# Altium schematic symbol library MySch.SchLib: 164 symbols (part 2 of 3)
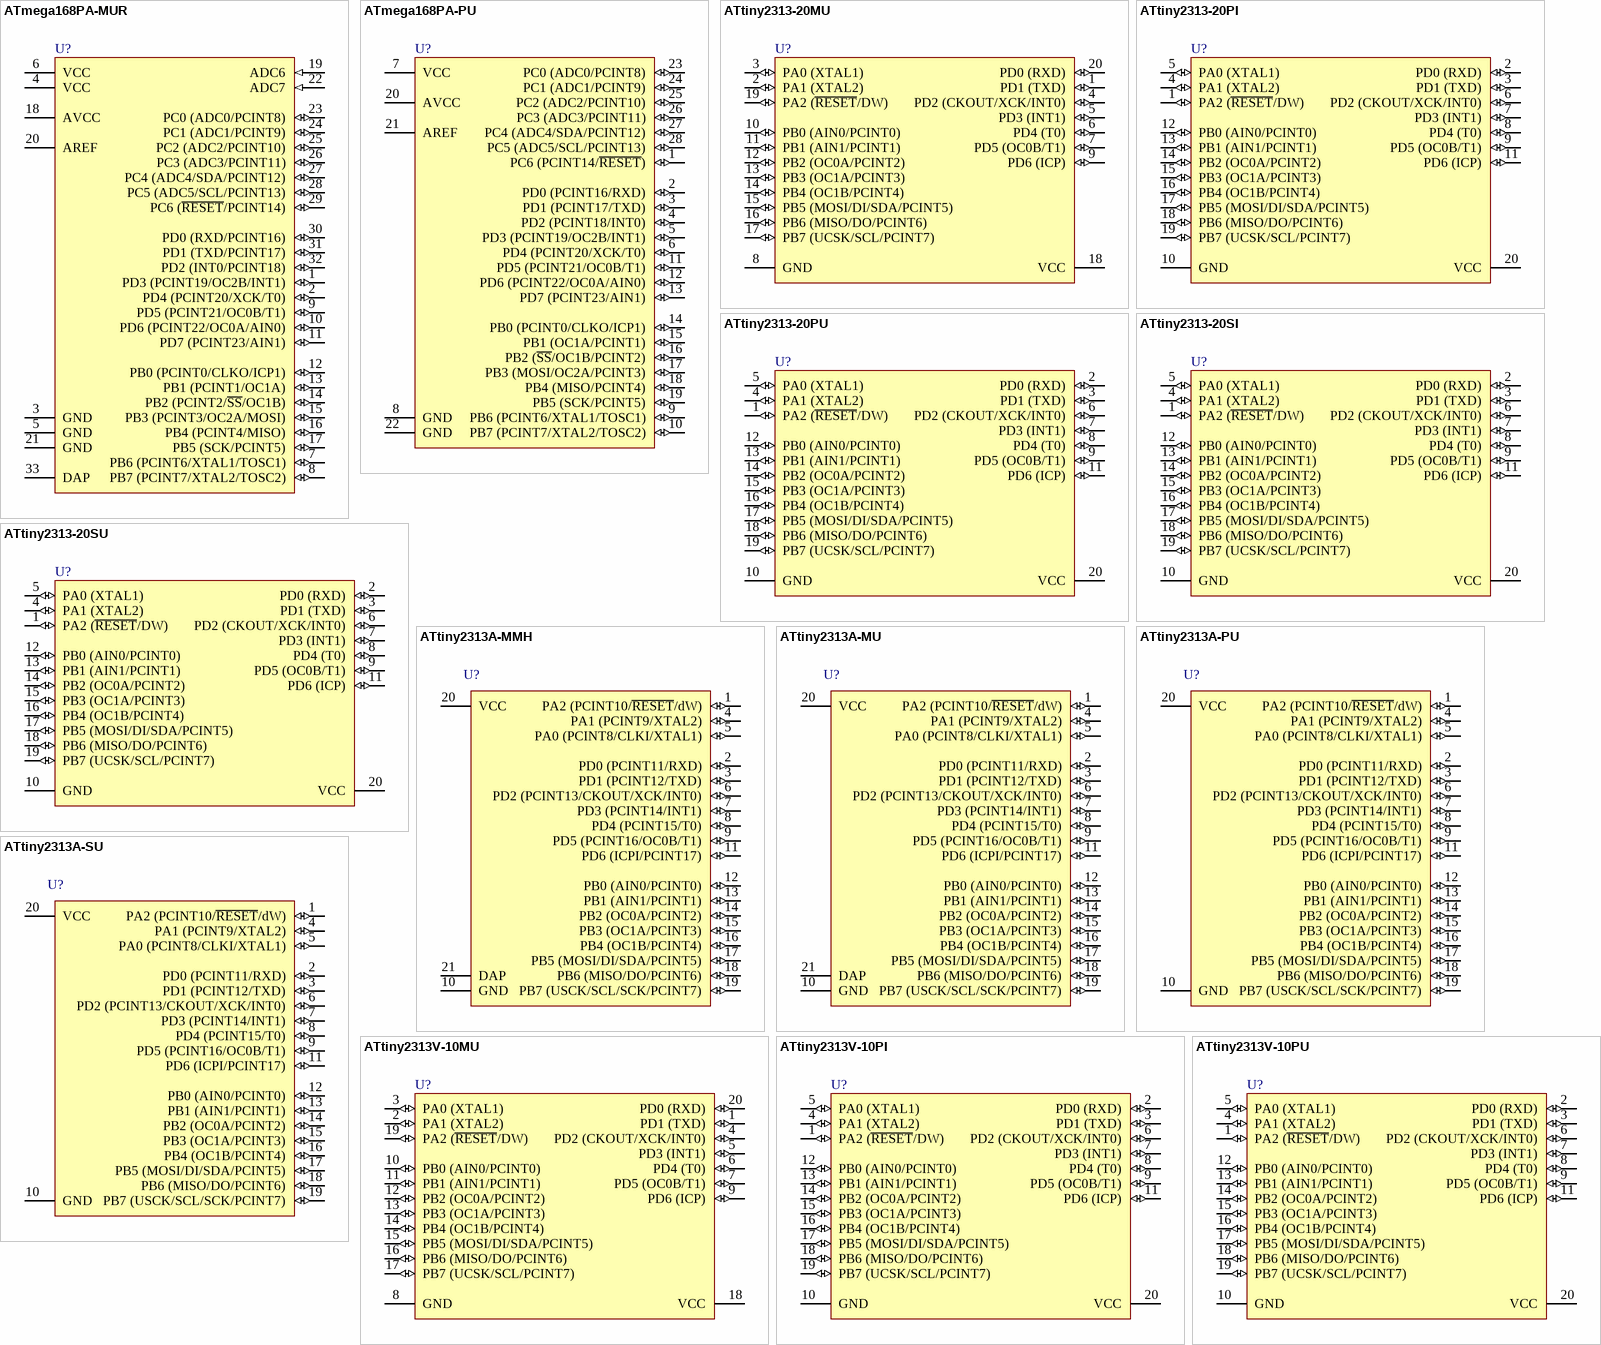
[diagram p7: symbols ATmega168PA-MUR to ATtiny2313V-10PU]

## ATtiny2313-20MU
designator U?
Low Power tinyAVR® 8-Bit Microcontroller, 2K Flash Memory, 20MHz, Industrial Temperature, 20-Lead MLF, Pb-Free; Published: 20-Nov-2009; DatasheetVersion: DOC2543B, Mar-2009; PackageVersion: revA, Oct-2004; PackageReference: 20M1; Publisher: Altium Limited; PackageDescription: 20-pad, 4 x 4 x 0.8 mm Body, Lead Pitch 0.50 mm, 2.6 mm Exposed Pad, Micro Lead Frame Package (MLF); Supplier 1: Digi-Key; Supplier Part Number 1: ATTINY2313-20MU-ND; Supplier 2: Farnell; Supplier Part Number 2: 1748539; Supplier 3: Mouser; Supplier Part Number 3: 556-ATTINY2313-20MU; Code_JEDEC: MO-220WGGD-5; ComponentLink1Description: Manufacturer Link; ComponentLink1URL: http://www.atmel.com/products/AVR/tinyavr.asp?; ComponentLink2Description: Datasheet; ComponentLink2URL: http://www.atmel.com/dyn/resources/prod_documents/doc2543.pdf; ComponentLink3Description: Atmel.com Home; ComponentLink3URL: http://www.atmel.com
footprint 20M1_N (QFN, 20-Leads, Body 4x4mm, Pitch 0.5mm, IPC Medium Density)
footprint 20M1_L (QFN, 20-Leads, Body 4x4mm, Pitch 0.5mm, IPC High Density)
footprint 20M1_M (QFN, 20-Leads, Body 4x4mm, Pitch 0.5mm, IPC Low Density)
pins: 1 PD1 (TXD) (io), 2 PA1 (XTAL2) (io), 3 PA0 (XTAL1) (io), 4 PD2 (CKOUT/XCK/INT0) (io), 5 PD3 (INT1) (io), 6 PD4 (T0) (io), 7 PD5 (OC0B/T1) (io), 8 GND (power), 9 PD6 (ICP) (io), 10 PB0 (AIN0/PCINT0) (io), 11 PB1 (AIN1/PCINT1) (io), 12 PB2 (OC0A/PCINT2) (io), 13 PB3 (OC1A/PCINT3) (io), 14 PB4 (OC1B/PCINT4) (io), 15 PB5 (MOSI/DI/SDA/PCINT5) (io), 16 PB6 (MISO/DO/PCINT6) (io), 17 PB7 (UCSK/SCL/PCINT7) (io), 18 VCC (power), 19 PA2 (~{RESET}/DW) (io), 20 PD0 (RXD) (io)

## ATtiny2313-20PI
designator U?
Low Power tinyAVR® 8-Bit Microcontroller, 2K Flash Memory, 20MHz, Industrial Temperature, 20-Lead PDIP; Published: 20-Nov-2009; DatasheetVersion: DOC2543B, Mar-2009; PackageVersion: revC, Jan-2004; PackageReference: 20P3; Publisher: Altium Limited; PackageDescription: 20-lead (0.300"/7.62mm Wide) Plastic Dual Inline Package (PDIP); Supplier 1: Digi-Key; Supplier Part Number 1: ATTINY2313-20PI-ND; Supplier 2: Mouser; Supplier Part Number 2: 556-ATTINY2313-20PI; Code_JEDEC: MS-001-AD; ComponentLink1Description: Manufacturer Link; ComponentLink1URL: http://www.atmel.com/products/AVR/tinyavr.asp?; ComponentLink2Description: Datasheet; ComponentLink2URL: http://www.atmel.com/dyn/resources/prod_documents/doc2543.pdf; ComponentLink3Description: Atmel.com Home; ComponentLink3URL: http://www.atmel.com
footprint 20P3 (DIP, 20-Leads, Row Spacing 7.62mm, Pitch 2.54mm, Body 25.9x6.61mm)
pins: 1 PA2 (~{RESET}/DW) (io), 2 PD0 (RXD) (io), 3 PD1 (TXD) (io), 4 PA1 (XTAL2) (io), 5 PA0 (XTAL1) (io), 6 PD2 (CKOUT/XCK/INT0) (io), 7 PD3 (INT1) (io), 8 PD4 (T0) (io), 9 PD5 (OC0B/T1) (io), 10 GND (power), 11 PD6 (ICP) (io), 12 PB0 (AIN0/PCINT0) (io), 13 PB1 (AIN1/PCINT1) (io), 14 PB2 (OC0A/PCINT2) (io), 15 PB3 (OC1A/PCINT3) (io), 16 PB4 (OC1B/PCINT4) (io), 17 PB5 (MOSI/DI/SDA/PCINT5) (io), 18 PB6 (MISO/DO/PCINT6) (io), 19 PB7 (UCSK/SCL/PCINT7) (io), 20 VCC (power)

## ATtiny2313-20PU
designator U?
Low Power tinyAVR® 8-Bit Microcontroller, 2K Flash Memory, 20MHz, Industrial Temperature, 20-Lead PDIP, Pb-Free; Published: 20-Nov-2009; DatasheetVersion: DOC2543B, Mar-2009; PackageVersion: revC, Jan-2004; PackageReference: 20P3; Publisher: Altium Limited; PackageDescription: 20-lead (0.300"/7.62mm Wide) Plastic Dual Inline Package (PDIP); Supplier 1: Digi-Key; Supplier Part Number 1: ATTINY2313-20PU-ND; Supplier 2: Farnell; Supplier Part Number 2: 9171592; Supplier 3: Mouser; Supplier Part Number 3: 556-ATTINY2313-20PU; Code_JEDEC: MS-001-AD; ComponentLink1Description: Manufacturer Link; ComponentLink1URL: http://www.atmel.com/products/AVR/tinyavr.asp?; ComponentLink2Description: Datasheet; ComponentLink2URL: http://www.atmel.com/dyn/resources/prod_documents/doc2543.pdf; ComponentLink3Description: Atmel.com Home; ComponentLink3URL: http://www.atmel.com
footprint 20P3 (DIP, 20-Leads, Row Spacing 7.62mm, Pitch 2.54mm, Body 25.9x6.61mm)
pins: 1 PA2 (~{RESET}/DW) (io), 2 PD0 (RXD) (io), 3 PD1 (TXD) (io), 4 PA1 (XTAL2) (io), 5 PA0 (XTAL1) (io), 6 PD2 (CKOUT/XCK/INT0) (io), 7 PD3 (INT1) (io), 8 PD4 (T0) (io), 9 PD5 (OC0B/T1) (io), 10 GND (power), 11 PD6 (ICP) (io), 12 PB0 (AIN0/PCINT0) (io), 13 PB1 (AIN1/PCINT1) (io), 14 PB2 (OC0A/PCINT2) (io), 15 PB3 (OC1A/PCINT3) (io), 16 PB4 (OC1B/PCINT4) (io), 17 PB5 (MOSI/DI/SDA/PCINT5) (io), 18 PB6 (MISO/DO/PCINT6) (io), 19 PB7 (UCSK/SCL/PCINT7) (io), 20 VCC (power)

## ATtiny2313-20SI
designator U?
Low Power tinyAVR® 8-Bit Microcontroller, 2K Flash Memory, 20MHz, Industrial Temperature, 20-Lead SOIC; Published: 20-Nov-2009; DatasheetVersion: DOC2543B, Mar-2009; PackageVersion: revA, Jan-2002; PackageReference: 20S; Publisher: Altium Limited; PackageDescription: 20-lead, 0.300" Wide Body, Plastic Gull Wing Small Outline Package (SOIC); Supplier 1: Digi-Key; Supplier Part Number 1: ATTINY2313-20SI-ND; Supplier 2: Mouser; Supplier Part Number 2: 556-ATTINY2313-20SI; Code_JEDEC: MS-013-AC; Code_IPC: SOIC127P1030-20; ComponentLink1Description: Manufacturer Link; ComponentLink1URL: http://www.atmel.com/products/AVR/tinyavr.asp?; ComponentLink2Description: Datasheet; ComponentLink2URL: http://www.atmel.com/dyn/resources/prod_documents/doc2543.pdf; ComponentLink3Description: Atmel.com Home; ComponentLink3URL: http://www.atmel.com
footprint 20S_N (SOIC, 20-Leads, Body 12.8x7.5mm, Pitch 1.27mm, IPC Medium Density)
footprint 20S_L (SOIC, 20-Leads, Body 12.8x7.5mm, Pitch 1.27mm, IPC High Density)
footprint 20S_M (SOIC, 20-Leads, Body 12.8x7.5mm, Pitch 1.27mm, IPC Low Density)
pins: 1 PA2 (~{RESET}/DW) (io), 2 PD0 (RXD) (io), 3 PD1 (TXD) (io), 4 PA1 (XTAL2) (io), 5 PA0 (XTAL1) (io), 6 PD2 (CKOUT/XCK/INT0) (io), 7 PD3 (INT1) (io), 8 PD4 (T0) (io), 9 PD5 (OC0B/T1) (io), 10 GND (power), 11 PD6 (ICP) (io), 12 PB0 (AIN0/PCINT0) (io), 13 PB1 (AIN1/PCINT1) (io), 14 PB2 (OC0A/PCINT2) (io), 15 PB3 (OC1A/PCINT3) (io), 16 PB4 (OC1B/PCINT4) (io), 17 PB5 (MOSI/DI/SDA/PCINT5) (io), 18 PB6 (MISO/DO/PCINT6) (io), 19 PB7 (UCSK/SCL/PCINT7) (io), 20 VCC (power)

## ATtiny2313-20SU
designator U?
Low Power tinyAVR® 8-Bit Microcontroller, 2K Flash Memory, 20MHz, Industrial Temperature, 20-Lead SOIC, Pb-Free; Published: 20-Nov-2009; DatasheetVersion: DOC2543B, Mar-2009; PackageVersion: revA, Jan-2002; PackageReference: 20S; Publisher: Altium Limited; PackageDescription: 20-lead, 0.300" Wide Body, Plastic Gull Wing Small Outline Package (SOIC); Supplier 1: Digi-Key; Supplier Part Number 1: ATTINY2313-20SU-ND; Supplier 2: Farnell; Supplier Part Number 2: 1661731; Supplier 3: Farnell; Supplier Part Number 3: 9171606; Supplier 4: Mouser; Supplier Part Number 4: 556-ATTINY2313-20SU; Code_JEDEC: MS-013-AC; Code_IPC: SOIC127P1030-20; ComponentLink1Description: Manufacturer Link; ComponentLink1URL: http://www.atmel.com/products/AVR/tinyavr.asp?; ComponentLink2Description: Datasheet; ComponentLink2URL: http://www.atmel.com/dyn/resources/prod_documents/doc2543.pdf; ComponentLink3Description: Atmel.com Home; ComponentLink3URL: http://www.atmel.com
footprint 20S_N (SOIC, 20-Leads, Body 12.8x7.5mm, Pitch 1.27mm, IPC Medium Density)
footprint 20S_L (SOIC, 20-Leads, Body 12.8x7.5mm, Pitch 1.27mm, IPC High Density)
footprint 20S_M (SOIC, 20-Leads, Body 12.8x7.5mm, Pitch 1.27mm, IPC Low Density)
pins: 1 PA2 (~{RESET}/DW) (io), 2 PD0 (RXD) (io), 3 PD1 (TXD) (io), 4 PA1 (XTAL2) (io), 5 PA0 (XTAL1) (io), 6 PD2 (CKOUT/XCK/INT0) (io), 7 PD3 (INT1) (io), 8 PD4 (T0) (io), 9 PD5 (OC0B/T1) (io), 10 GND (power), 11 PD6 (ICP) (io), 12 PB0 (AIN0/PCINT0) (io), 13 PB1 (AIN1/PCINT1) (io), 14 PB2 (OC0A/PCINT2) (io), 15 PB3 (OC1A/PCINT3) (io), 16 PB4 (OC1B/PCINT4) (io), 17 PB5 (MOSI/DI/SDA/PCINT5) (io), 18 PB6 (MISO/DO/PCINT6) (io), 19 PB7 (UCSK/SCL/PCINT7) (io), 20 VCC (power)

## ATtiny2313A-MMH
designator U?
8-bit AVR Microcontroller, 1.8-5.5V, 2KB Flash, 128 Bytes EEPROM, 128 Bytes SRAM, 20-pin VQFN, Industrial Grade (-40°C to 85°C), Pb-Free; Published: 1-Apr-2010; DatasheetVersion: revA, Dec-2009; PackageVersion: revB, Oct-2008; PackageReference: 20M2; Publisher: Altium Limited; PackageDescription: 20-pad, 3x3x0.85mm Body, Pitch 0.45mm, 1.55x1.55mm Exposed Pad, Plastic Very Thin QFN Package (VQFN); Supplier 1: Digi-Key; Supplier Part Number 1: ATTINY2313A-MMH-ND; Supplier 2: Mouser; Supplier Part Number 2: 556-ATTINY2313A-MMH; ComponentLink1Description: Manufacturer Link; ComponentLink1URL: http://www.atmel.com/products/avr/default.asp?; ComponentLink2Description: ATtiny2313A/4313 Datasheet; ComponentLink2URL: http://www.atmel.com/dyn/resources/prod_documents/doc8246.pdf; ComponentLink3Description: ATtiny2313A/4313 Summary; ComponentLink3URL: http://www.atmel.com/dyn/resources/prod_documents/8246S.pdf; ComponentLink4Description: Atmel.com Home; ComponentLink4URL: http://www.atmel.com
footprint 20M2_N (QFN, 20-Leads, Body 3x3mm, Pitch 0.45mm, IPC Medium Density)
footprint 20M2_L (QFN, 20-Leads, Body 3x3mm, Pitch 0.45mm, IPC High Density)
footprint 20M2_M (QFN, 20-Leads, Body 3x3mm, Pitch 0.45mm, IPC Low Density)
pins: 1 PA2 (PCINT10/~{RESET}/dW) (io), 2 PD0 (PCINT11/RXD) (io), 3 PD1 (PCINT12/TXD) (io), 4 PA1 (PCINT9/XTAL2) (io), 5 PA0 (PCINT8/CLKI/XTAL1) (io), 6 PD2 (PCINT13/CKOUT/XCK/INT0) (io), 7 PD3 (PCINT14/INT1) (io), 8 PD4 (PCINT15/T0) (io), 9 PD5 (PCINT16/OC0B/T1) (io), 10 GND (power), 11 PD6 (ICPI/PCINT17) (io), 12 PB0 (AIN0/PCINT0) (io), 13 PB1 (AIN1/PCINT1) (io), 14 PB2 (OC0A/PCINT2) (io), 15 PB3 (OC1A/PCINT3) (io), 16 PB4 (OC1B/PCINT4) (io), 17 PB5 (MOSI/DI/SDA/PCINT5) (io), 18 PB6 (MISO/DO/PCINT6) (io), 19 PB7 (USCK/SCL/SCK/PCINT7) (io), 20 VCC (power), 21 DAP

## ATtiny2313A-MU
designator U?
8-bit AVR Microcontroller, 1.8-5.5V, 2KB Flash, 128 Bytes EEPROM, 128 Bytes SRAM, 20-pin MLF, Industrial Grade (-40°C to 85°C), Pb-Free; Published: 1-Apr-2010; DatasheetVersion: revA, Dec-2009; PackageVersion: revA, Oct-2004; PackageReference: 20M1; Publisher: Altium Limited; PackageDescription: 20-pad, 4 x 4 x 0.8 mm Body, Lead Pitch 0.50 mm, 2.6 mm Exposed Pad, Micro Lead Frame Package (MLF); Supplier 1: Digi-Key; Supplier Part Number 1: ATTINY2313A-MU-ND; Supplier 2: Mouser; Supplier Part Number 2: 556-ATTINY2313A-MU; Code_JEDEC: MO-220WGGD-5; ComponentLink1Description: Manufacturer Link; ComponentLink1URL: http://www.atmel.com/products/avr/default.asp?; ComponentLink2Description: ATtiny2313A/4313 Datasheet; ComponentLink2URL: http://www.atmel.com/dyn/resources/prod_documents/doc8246.pdf; ComponentLink3Description: ATtiny2313A/4313 Summary; ComponentLink3URL: http://www.atmel.com/dyn/resources/prod_documents/8246S.pdf; ComponentLink4Description: Atmel.com Home; ComponentLink4URL: http://www.atmel.com
footprint 20M1_N (QFN, 20-Leads, Body 4x4mm, Pitch 0.5mm, IPC Medium Density)
footprint 20M1_L (QFN, 20-Leads, Body 4x4mm, Pitch 0.5mm, IPC High Density)
footprint 20M1_M (QFN, 20-Leads, Body 4x4mm, Pitch 0.5mm, IPC Low Density)
pins: 1 PA2 (PCINT10/~{RESET}/dW) (io), 2 PD0 (PCINT11/RXD) (io), 3 PD1 (PCINT12/TXD) (io), 4 PA1 (PCINT9/XTAL2) (io), 5 PA0 (PCINT8/CLKI/XTAL1) (io), 6 PD2 (PCINT13/CKOUT/XCK/INT0) (io), 7 PD3 (PCINT14/INT1) (io), 8 PD4 (PCINT15/T0) (io), 9 PD5 (PCINT16/OC0B/T1) (io), 10 GND (power), 11 PD6 (ICPI/PCINT17) (io), 12 PB0 (AIN0/PCINT0) (io), 13 PB1 (AIN1/PCINT1) (io), 14 PB2 (OC0A/PCINT2) (io), 15 PB3 (OC1A/PCINT3) (io), 16 PB4 (OC1B/PCINT4) (io), 17 PB5 (MOSI/DI/SDA/PCINT5) (io), 18 PB6 (MISO/DO/PCINT6) (io), 19 PB7 (USCK/SCL/SCK/PCINT7) (io), 20 VCC (power), 21 DAP

## ATtiny2313A-PU
designator U?
8-bit AVR Microcontroller, 1.8-5.5V, 2KB Flash, 128 Bytes EEPROM, 128 Bytes SRAM, 20-pin PDIP, Industrial Grade (-40°C to 85°C), Pb-Free; Published: 1-Apr-2010; DatasheetVersion: revA, Dec-2009; PackageVersion: revC, Jan-2004; PackageReference: 20P3; Publisher: Altium Limited; PackageDescription: 20-lead (0.300"/7.62mm Wide) Plastic Dual Inline Package (PDIP); Supplier 1: Digi-Key; Supplier Part Number 1: ATTINY2313A-PU-ND; Supplier 2: Mouser; Supplier Part Number 2: 556-ATTINY2313A-PU; Code_JEDEC: MS-001-AD; ComponentLink1Description: Manufacturer Link; ComponentLink1URL: http://www.atmel.com/products/avr/default.asp?; ComponentLink2Description: ATtiny2313A/4313 Datasheet; ComponentLink2URL: http://www.atmel.com/dyn/resources/prod_documents/doc8246.pdf; ComponentLink3Description: ATtiny2313A/4313 Summary; ComponentLink3URL: http://www.atmel.com/dyn/resources/prod_documents/8246S.pdf; ComponentLink4Description: Atmel.com Home; ComponentLink4URL: http://www.atmel.com
footprint 20P3 (DIP, 20-Leads, Row Spacing 7.62mm, Pitch 2.54mm, Body 25.9x6.61mm)
pins: 1 PA2 (PCINT10/~{RESET}/dW) (io), 2 PD0 (PCINT11/RXD) (io), 3 PD1 (PCINT12/TXD) (io), 4 PA1 (PCINT9/XTAL2) (io), 5 PA0 (PCINT8/CLKI/XTAL1) (io), 6 PD2 (PCINT13/CKOUT/XCK/INT0) (io), 7 PD3 (PCINT14/INT1) (io), 8 PD4 (PCINT15/T0) (io), 9 PD5 (PCINT16/OC0B/T1) (io), 10 GND (power), 11 PD6 (ICPI/PCINT17) (io), 12 PB0 (AIN0/PCINT0) (io), 13 PB1 (AIN1/PCINT1) (io), 14 PB2 (OC0A/PCINT2) (io), 15 PB3 (OC1A/PCINT3) (io), 16 PB4 (OC1B/PCINT4) (io), 17 PB5 (MOSI/DI/SDA/PCINT5) (io), 18 PB6 (MISO/DO/PCINT6) (io), 19 PB7 (USCK/SCL/SCK/PCINT7) (io), 20 VCC (power)

## ATtiny2313A-SU
designator U?
8-bit AVR Microcontroller, 1.8-5.5V, 2KB Flash, 128 Bytes EEPROM, 128 Bytes SRAM, 20-pin SOIC, Industrial Grade (-40°C to 85°C), Pb-Free; Published: 1-Apr-2010; DatasheetVersion: revA, Dec-2009; PackageVersion: revA, Jan-2002; PackageReference: 20S; Publisher: Altium Limited; PackageDescription: 20-lead, 0.300" Wide Body, Plastic Gull Wing Small Outline Package (SOIC); Supplier 1: Digi-Key; Supplier Part Number 1: ATTINY2313A-SU-ND; Supplier 2: Mouser; Supplier Part Number 2: 556-ATTINY2313A-SU; Code_JEDEC: MS-013-AC; Code_IPC: SOIC127P1030-20; ComponentLink1Description: Manufacturer Link; ComponentLink1URL: http://www.atmel.com/products/avr/default.asp?; ComponentLink2Description: ATtiny2313A/4313 Datasheet; ComponentLink2URL: http://www.atmel.com/dyn/resources/prod_documents/doc8246.pdf; ComponentLink3Description: ATtiny2313A/4313 Summary; ComponentLink3URL: http://www.atmel.com/dyn/resources/prod_documents/8246S.pdf; ComponentLink4Description: Atmel.com Home; ComponentLink4URL: http://www.atmel.com
footprint 20S_N (SOIC, 20-Leads, Body 12.8x7.5mm, Pitch 1.27mm, IPC Medium Density)
footprint 20S_L (SOIC, 20-Leads, Body 12.8x7.5mm, Pitch 1.27mm, IPC High Density)
footprint 20S_M (SOIC, 20-Leads, Body 12.8x7.5mm, Pitch 1.27mm, IPC Low Density)
pins: 1 PA2 (PCINT10/~{RESET}/dW) (io), 2 PD0 (PCINT11/RXD) (io), 3 PD1 (PCINT12/TXD) (io), 4 PA1 (PCINT9/XTAL2) (io), 5 PA0 (PCINT8/CLKI/XTAL1) (io), 6 PD2 (PCINT13/CKOUT/XCK/INT0) (io), 7 PD3 (PCINT14/INT1) (io), 8 PD4 (PCINT15/T0) (io), 9 PD5 (PCINT16/OC0B/T1) (io), 10 GND (power), 11 PD6 (ICPI/PCINT17) (io), 12 PB0 (AIN0/PCINT0) (io), 13 PB1 (AIN1/PCINT1) (io), 14 PB2 (OC0A/PCINT2) (io), 15 PB3 (OC1A/PCINT3) (io), 16 PB4 (OC1B/PCINT4) (io), 17 PB5 (MOSI/DI/SDA/PCINT5) (io), 18 PB6 (MISO/DO/PCINT6) (io), 19 PB7 (USCK/SCL/SCK/PCINT7) (io), 20 VCC (power)

## ATtiny2313V-10MU
designator U?
Low Power tinyAVR® 8-Bit Microcontroller, 2K Flash Memory, 10MHz, Industrial Temperature, 20-Lead MLF, Pb-Free; Published: 20-Nov-2009; DatasheetVersion: DOC2543B, Mar-2009; PackageVersion: revA, Oct-2004; PackageReference: 20M1; Publisher: Altium Limited; PackageDescription: 20-pad, 4 x 4 x 0.8 mm Body, Lead Pitch 0.50 mm, 2.6 mm Exposed Pad, Micro Lead Frame Package (MLF); Supplier 1: Digi-Key; Supplier Part Number 1: ATTINY2313V-10MU-ND; Supplier 2: Farnell; Supplier Part Number 2: 1748540; Supplier 3: Mouser; Supplier Part Number 3: 556-ATTINY2313V10MU; Code_JEDEC: MO-220WGGD-5; ComponentLink1Description: Manufacturer Link; ComponentLink1URL: http://www.atmel.com/products/AVR/tinyavr.asp?; ComponentLink2Description: Datasheet; ComponentLink2URL: http://www.atmel.com/dyn/resources/prod_documents/doc2543.pdf; ComponentLink3Description: Atmel.com Home; ComponentLink3URL: http://www.atmel.com
footprint 20M1_N (QFN, 20-Leads, Body 4x4mm, Pitch 0.5mm, IPC Medium Density)
footprint 20M1_L (QFN, 20-Leads, Body 4x4mm, Pitch 0.5mm, IPC High Density)
footprint 20M1_M (QFN, 20-Leads, Body 4x4mm, Pitch 0.5mm, IPC Low Density)
pins: 1 PD1 (TXD) (io), 2 PA1 (XTAL2) (io), 3 PA0 (XTAL1) (io), 4 PD2 (CKOUT/XCK/INT0) (io), 5 PD3 (INT1) (io), 6 PD4 (T0) (io), 7 PD5 (OC0B/T1) (io), 8 GND (power), 9 PD6 (ICP) (io), 10 PB0 (AIN0/PCINT0) (io), 11 PB1 (AIN1/PCINT1) (io), 12 PB2 (OC0A/PCINT2) (io), 13 PB3 (OC1A/PCINT3) (io), 14 PB4 (OC1B/PCINT4) (io), 15 PB5 (MOSI/DI/SDA/PCINT5) (io), 16 PB6 (MISO/DO/PCINT6) (io), 17 PB7 (UCSK/SCL/PCINT7) (io), 18 VCC (power), 19 PA2 (~{RESET}/DW) (io), 20 PD0 (RXD) (io)

## ATtiny2313V-10PI
designator U?
Low Power tinyAVR® 8-Bit Microcontroller, 2K Flash Memory, 10MHz, Industrial Temperature, 20-Lead PDIP; Published: 20-Nov-2009; DatasheetVersion: DOC2543B, Mar-2009; PackageVersion: revC, Jan-2004; PackageReference: 20P3; Publisher: Altium Limited; PackageDescription: 20-lead (0.300"/7.62mm Wide) Plastic Dual Inline Package (PDIP); Supplier 1: Digi-Key; Supplier Part Number 1: ATTINY2313V-10PI-ND; Supplier 2: Mouser; Supplier Part Number 2: 556-ATTINY2313V10PI; Code_JEDEC: MS-001-AD; ComponentLink1Description: Manufacturer Link; ComponentLink1URL: http://www.atmel.com/products/AVR/tinyavr.asp?; ComponentLink2Description: Datasheet; ComponentLink2URL: http://www.atmel.com/dyn/resources/prod_documents/doc2543.pdf; ComponentLink3Description: Atmel.com Home; ComponentLink3URL: http://www.atmel.com
footprint 20P3 (DIP, 20-Leads, Row Spacing 7.62mm, Pitch 2.54mm, Body 25.9x6.61mm)
pins: 1 PA2 (~{RESET}/DW) (io), 2 PD0 (RXD) (io), 3 PD1 (TXD) (io), 4 PA1 (XTAL2) (io), 5 PA0 (XTAL1) (io), 6 PD2 (CKOUT/XCK/INT0) (io), 7 PD3 (INT1) (io), 8 PD4 (T0) (io), 9 PD5 (OC0B/T1) (io), 10 GND (power), 11 PD6 (ICP) (io), 12 PB0 (AIN0/PCINT0) (io), 13 PB1 (AIN1/PCINT1) (io), 14 PB2 (OC0A/PCINT2) (io), 15 PB3 (OC1A/PCINT3) (io), 16 PB4 (OC1B/PCINT4) (io), 17 PB5 (MOSI/DI/SDA/PCINT5) (io), 18 PB6 (MISO/DO/PCINT6) (io), 19 PB7 (UCSK/SCL/PCINT7) (io), 20 VCC (power)

## ATtiny2313V-10PU
designator U?
Low Power tinyAVR® 8-Bit Microcontroller, 2K Flash Memory, 10MHz, Industrial Temperature, 20-Lead PDIP, Pb-Free; Published: 20-Nov-2009; DatasheetVersion: DOC2543B, Mar-2009; PackageVersion: revC, Jan-2004; PackageReference: 20P3; Publisher: Altium Limited; PackageDescription: 20-lead (0.300"/7.62mm Wide) Plastic Dual Inline Package (PDIP); Supplier 1: Digi-Key; Supplier Part Number 1: ATTINY2313V-10PU-ND; Supplier 2: Farnell; Supplier Part Number 2: 9171614; Supplier 3: Mouser; Supplier Part Number 3: 556-ATTINY2313V10PU; Code_JEDEC: MS-001-AD; ComponentLink1Description: Manufacturer Link; ComponentLink1URL: http://www.atmel.com/products/AVR/tinyavr.asp?; ComponentLink2Description: Datasheet; ComponentLink2URL: http://www.atmel.com/dyn/resources/prod_documents/doc2543.pdf; ComponentLink3Description: Atmel.com Home; ComponentLink3URL: http://www.atmel.com
footprint 20P3 (DIP, 20-Leads, Row Spacing 7.62mm, Pitch 2.54mm, Body 25.9x6.61mm)
pins: 1 PA2 (~{RESET}/DW) (io), 2 PD0 (RXD) (io), 3 PD1 (TXD) (io), 4 PA1 (XTAL2) (io), 5 PA0 (XTAL1) (io), 6 PD2 (CKOUT/XCK/INT0) (io), 7 PD3 (INT1) (io), 8 PD4 (T0) (io), 9 PD5 (OC0B/T1) (io), 10 GND (power), 11 PD6 (ICP) (io), 12 PB0 (AIN0/PCINT0) (io), 13 PB1 (AIN1/PCINT1) (io), 14 PB2 (OC0A/PCINT2) (io), 15 PB3 (OC1A/PCINT3) (io), 16 PB4 (OC1B/PCINT4) (io), 17 PB5 (MOSI/DI/SDA/PCINT5) (io), 18 PB6 (MISO/DO/PCINT6) (io), 19 PB7 (UCSK/SCL/PCINT7) (io), 20 VCC (power)

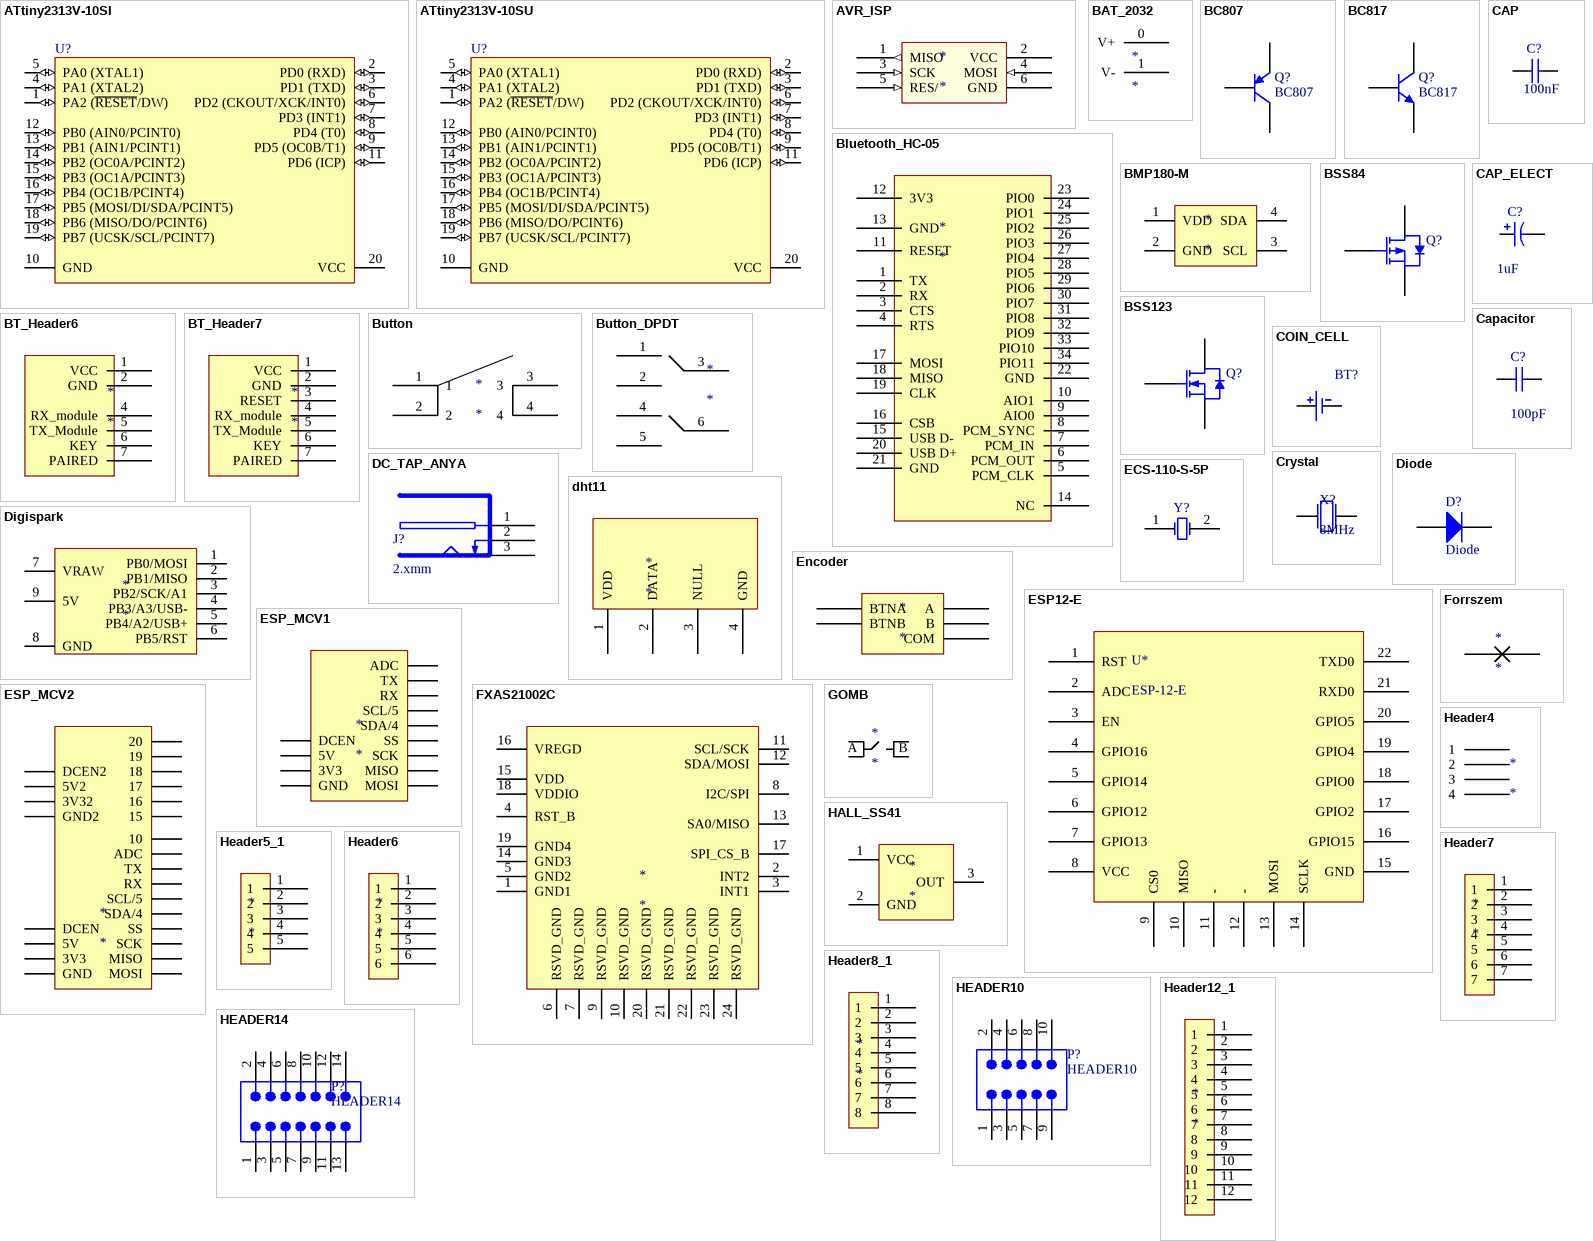
[diagram p3: symbols ATtiny2313V-10SI to HEADER14]

## ATtiny2313V-10SI
designator U?
Low Power tinyAVR® 8-Bit Microcontroller, 2K Flash Memory, 10MHz, Industrial Temperature, 20-Lead SOIC; Published: 20-Nov-2009; DatasheetVersion: DOC2543B, Mar-2009; PackageVersion: revA, Jan-2002; PackageReference: 20S; Publisher: Altium Limited; PackageDescription: 20-lead, 0.300" Wide Body, Plastic Gull Wing Small Outline Package (SOIC); Supplier 1: Digi-Key; Supplier Part Number 1: ATTINY2313V-10SI-ND; Supplier 2: Mouser; Supplier Part Number 2: 556-ATTINY2313V10SI; Code_JEDEC: MS-013-AC; Code_IPC: SOIC127P1030-20; ComponentLink1Description: Manufacturer Link; ComponentLink1URL: http://www.atmel.com/products/AVR/tinyavr.asp?; ComponentLink2Description: Datasheet; ComponentLink2URL: http://www.atmel.com/dyn/resources/prod_documents/doc2543.pdf; ComponentLink3Description: Atmel.com Home; ComponentLink3URL: http://www.atmel.com
footprint 20S_N (SOIC, 20-Leads, Body 12.8x7.5mm, Pitch 1.27mm, IPC Medium Density)
footprint 20S_L (SOIC, 20-Leads, Body 12.8x7.5mm, Pitch 1.27mm, IPC High Density)
footprint 20S_M (SOIC, 20-Leads, Body 12.8x7.5mm, Pitch 1.27mm, IPC Low Density)
pins: 1 PA2 (~{RESET}/DW) (io), 2 PD0 (RXD) (io), 3 PD1 (TXD) (io), 4 PA1 (XTAL2) (io), 5 PA0 (XTAL1) (io), 6 PD2 (CKOUT/XCK/INT0) (io), 7 PD3 (INT1) (io), 8 PD4 (T0) (io), 9 PD5 (OC0B/T1) (io), 10 GND (power), 11 PD6 (ICP) (io), 12 PB0 (AIN0/PCINT0) (io), 13 PB1 (AIN1/PCINT1) (io), 14 PB2 (OC0A/PCINT2) (io), 15 PB3 (OC1A/PCINT3) (io), 16 PB4 (OC1B/PCINT4) (io), 17 PB5 (MOSI/DI/SDA/PCINT5) (io), 18 PB6 (MISO/DO/PCINT6) (io), 19 PB7 (UCSK/SCL/PCINT7) (io), 20 VCC (power)

## ATtiny2313V-10SU
designator U?
Low Power tinyAVR® 8-Bit Microcontroller, 2K Flash Memory, 10MHz, Industrial Temperature, 20-Lead SOIC, Pb-Free; Published: 20-Nov-2009; DatasheetVersion: DOC2543B, Mar-2009; PackageVersion: revA, Jan-2002; PackageReference: 20S; Publisher: Altium Limited; PackageDescription: 20-lead, 0.300" Wide Body, Plastic Gull Wing Small Outline Package (SOIC); Supplier 1: Digi-Key; Supplier Part Number 1: ATTINY2313V-10SU-ND; Supplier 2: Farnell; Supplier Part Number 2: 9171622; Supplier 3: Mouser; Supplier Part Number 3: 556-ATTINY2313V10SU; Code_JEDEC: MS-013-AC; Code_IPC: SOIC127P1030-20; ComponentLink1Description: Manufacturer Link; ComponentLink1URL: http://www.atmel.com/products/AVR/tinyavr.asp?; ComponentLink2Description: Datasheet; ComponentLink2URL: http://www.atmel.com/dyn/resources/prod_documents/doc2543.pdf; ComponentLink3Description: Atmel.com Home; ComponentLink3URL: http://www.atmel.com
footprint 20S_N (SOIC, 20-Leads, Body 12.8x7.5mm, Pitch 1.27mm, IPC Medium Density)
footprint 20S_L (SOIC, 20-Leads, Body 12.8x7.5mm, Pitch 1.27mm, IPC High Density)
footprint 20S_M (SOIC, 20-Leads, Body 12.8x7.5mm, Pitch 1.27mm, IPC Low Density)
pins: 1 PA2 (~{RESET}/DW) (io), 2 PD0 (RXD) (io), 3 PD1 (TXD) (io), 4 PA1 (XTAL2) (io), 5 PA0 (XTAL1) (io), 6 PD2 (CKOUT/XCK/INT0) (io), 7 PD3 (INT1) (io), 8 PD4 (T0) (io), 9 PD5 (OC0B/T1) (io), 10 GND (power), 11 PD6 (ICP) (io), 12 PB0 (AIN0/PCINT0) (io), 13 PB1 (AIN1/PCINT1) (io), 14 PB2 (OC0A/PCINT2) (io), 15 PB3 (OC1A/PCINT3) (io), 16 PB4 (OC1B/PCINT4) (io), 17 PB5 (MOSI/DI/SDA/PCINT5) (io), 18 PB6 (MISO/DO/PCINT6) (io), 19 PB7 (UCSK/SCL/PCINT7) (io), 20 VCC (power)

## AVR_ISP
designator *
footprint HEADER6
pins: 1 MISO (out), 2 VCC (power), 3 SCK (in), 4 MOSI (in), 5 RES/ (in), 6 GND (power)

## BAT_2032
designator *
footprint BATT_2032; pin to pad 0>V+ 1>V-
pins: 0 V+, 1 V-

## BC807
designator Q?
PNP Transistor; Reference: 1081221; Name: BC807-25  Bipolar (BJT) Single Transistor, PNP, 45 V, 100 MHz; Supplier: Farnell
footprint FP_SOT23-3 (SOT23-3 tok); pin to pad 1>2 2>1
pins: 1 E, 2 B, 3 C

## BC817
designator Q?
NPN General-purpose Transistor; ComponentLink1Description: Manufacturer Link; ComponentLink1URL: http://www.semiconductors.philips.com/; ComponentLink2Description: Datasheet; ComponentLink2URL: http://www.semiconductors.philips.com/acrobat/datasheets/BC817_BC817W_BC337_5.pdf
simulation model QBC817 (NPN)
signal-integrity model BC817
footprint FP_SOT23-3 (SOT23-3 tok)
pins: 1 B, 2 E, 3 C

## Bluetooth_HC-05
designator *
footprint BLUETOOTH_HC-05
pins: 1 TX, 2 RX, 3 CTS, 4 RTS, 5 PCM_CLK, 6 PCM_OUT, 7 PCM_IN, 8 PCM_SYNC, 9 AIO0, 10 AIO1, 11 RESET, 12 3V3, 13 GND, 14 NC, 15 USB D-, 16 CSB, 17 MOSI, 18 MISO, 19 CLK, 20 USB D+, 21 GND, 22 GND, 23 PIO0, 24 PIO1, 25 PIO2, 26 PIO3, 27 PIO4, 28 PIO5, 29 PIO6, 30 PIO7, 31 PIO8, 32 PIO9, 33 PIO10, 34 PIO11

## BMP180-M
designator *
footprint BMP180-M
pins: 1 VDD, 2 GND, 3 SCL, 4 SDA

## BSS84
designator Q?
P-channel Enhancement Mode Vertical D-MOSFET; Published: 17-Sep-2003; LatestRevisionDate: 12-Dec-2006; LatestRevisionNote: IPC-7351 Footprint Added.; DatasheetVersion: 18-Jun-1997; PackageVersion: May-1999; PackageReference: SOT23; Publisher: Altium Limited; PackageDescription: 3-Pin SOT-23 Package 0.95 mm Pitch, 2.3 mm Lead Span; ComponentLink1Description: Manufacturer Link; ComponentLink1URL: http://www.semiconductors.philips.com/; ComponentLink2Description: Datasheet; ComponentLink2URL: http://www.semiconductors.philips.com/acrobat/datasheets/BSS84_3.pdf
footprint SOT23_N (SOT23, 3-Leads, Body 2.9x1.3mm, Pitch 0.95mm, Lead Span 2.3mm, IPC Medium Density)
footprint SOT23_L (SOT23, 3-Leads, Body 2.9x1.3mm, Pitch 0.95mm, Lead Span 2.3mm, IPC High Density)
footprint SOT23_M (SOT23, 3-Leads, Body 2.9x1.3mm, Pitch 0.95mm, Lead Span 2.3mm, IPC Low Density)
simulation model BSS84 (SUBCKT)
pins: 1 G, 2 S, 3 D

## BSS123
designator Q?
N-channel Enhancement Mode Vertical D-MOSFET; Published: 17-Sep-2003; LatestRevisionDate: 12-Dec-2006; LatestRevisionNote: IPC-7351 Footprint Added.; DatasheetVersion: Apr-1995; PackageVersion: May-1999; PackageReference: SOT23; Publisher: Altium Limited; PackageDescription: 3-Pin SOT-23 Package 0.95 mm Pitch, 2.3 mm Lead Span; ComponentLink1Description: Manufacturer Link; ComponentLink1URL: http://www.semiconductors.philips.com/; ComponentLink2Description: Datasheet; ComponentLink2URL: http://www.semiconductors.philips.com/acrobat/datasheets/BSS123_3.pdf
footprint SOT23_N (SOT23, 3-Leads, Body 2.9x1.3mm, Pitch 0.95mm, Lead Span 2.3mm, IPC Medium Density)
footprint SOT23_L (SOT23, 3-Leads, Body 2.9x1.3mm, Pitch 0.95mm, Lead Span 2.3mm, IPC High Density)
footprint SOT23_M (SOT23, 3-Leads, Body 2.9x1.3mm, Pitch 0.95mm, Lead Span 2.3mm, IPC Low Density)
simulation model BSS123 (SUBCKT)
pins: 1 G, 2 S, 3 D

## BT_Header6
designator *
footprint HEADER6; pin to pad 5>6 6>5 7>3
pins: 1 VCC, 2 GND, 4 RX_module, 5 TX_Module, 6 KEY, 7 PAIRED

## BT_Header7
designator *
footprint FP_CONN7_TUSKE_254MM (7×1 tüskesor)
pins: 1 VCC, 2 GND, 3 RESET, 4 RX_module, 5 TX_Module, 6 KEY, 7 PAIRED

## Button
designator *
footprint FP_TACTBTN (TE CONNECTIVITY / ALCOSWITCH - FSM2JSMA)
footprint FP_TACTBTN_KSC (TE CONNECTIVITY / ALCOSWITCH - FSM2JSMA)
footprint FP_TACTBTN _OMRON (TE CONNECTIVITY / ALCOSWITCH - FSM2JSMA)
pins: 1, 2, 3, 4

## Button_DPDT
designator *
footprint DPDT-6
pins: 1, 2, 3, 4, 5, 6

## CAP
designator C?, comment 100nF
Capacitor; Value: 100nF
simulation model CAP (Capacitor)
signal-integrity model Cap
footprint FP_0402_CAP_050 (0.5mm magas 0402 kapacitás)
footprint FP_0603_CAP_080 (0.8mm magas 0603 kapacitás)
footprint FP_0805_CAP_085 (0805 kapacitás YAGEO 0.85mm magas)
footprint FP_1206_CAP_125 (1206 kapacitás 1.25 mm)
pins: 1, 2

## CAP_ELECT
designator C?, comment 1uF
Polarized Capacitor; Value: 1uF
footprint FP_3528 (3528 TANTÁL SMD "B"-TOK)
footprint FP_6032
footprint FP_7343
footprint CAP_18x36x7.5
footprint CAP_8x10
footprint CAP_22x40x10
footprint CAP_10x20x5
footprint CAP_4x5.8mm
pins: N, P
1 alternate drawing of the same symbol

## Capacitor
designator C?  value 100pF  (hidden comment: Capacitor)
Ceramic Chip Capacitor - Standard; Note: Footprint corresponds to dimensions for bulk cassette packaging. This case size has tightened tolerances.; Published: 17-Jul-2002; LatestRevisionDate: 19-Mar-2004; LatestRevisionNote: Silkscreen size reduced.; DatasheetDocument: Mar-2001; PackageDocument: Mar-2001; PackageReference: 0805; Publisher: Altium Limited; Code_JEITA: 0805; Code_IPC: 2012[0805]; ComponentLink1Description: Manufacturer Link; ComponentLink1URL: http://www.kemet.com/; ComponentLink2Description: Datasheet; ComponentLink2URL: http://www.kemet.com/kemet/web/homepage/kechome.nsf/vapubfilesname/F3102TA.pdf/$file/F3102TA.pdf
simulation model CAP (Capacitor)
signal-integrity model C0805
footprint C0805 (Chip Capacitor; Body 2.0 x 1.2 mm (LxW typ))
footprint C1206 (Chip Capacitor; Body 3.2 x 1.6 mm (LxW typ))
footprint C1210 (Chip Capacitor; Body 3.2 x 2.5 mm (LxW typ))
footprint C1805 (Chip Capacitor; Body 4.5 x 1.3 mm (LxW typ))
footprint C1805 (Chip Capacitor; Body 4.5 x 1.3 mm (LxW typ))
footprint C1808 (Chip Capacitor; Body 4.5 x 2.0 mm (LxW typ))
footprint C1812 (Chip Capacitor; Body 4.5 x 3.2 mm (LxW typ))
footprint C1825 (Chip Capacitor; Body 4.5 x 6.4 mm (LxW typ))
footprint C2225 (Chip Capacitor; Body 5.6 x 6.4 mm (LxW typ))
pins: 1, 2

## COIN_CELL
designator BT?
footprint FP_COIN_CELL (CR2450 Battery holder)
footprint FP_COIN_CELL_Renata (CR2450 Battery holder); pin to pad 1>1_PLUS 2>2_MIN
footprint FP_COIN_CELL_CH273-2450 (CR2450 Battery holder)
pins: 1 positive, 2 negative

## Crystal
designator X?, comment 8MHz
Quarz Crystal; Value: 8MHz
footprint FP_CRYSTAL_HC49_SMD (HC49/SMD)
footprint FP_CRYSTAL_HC49 (HC49)
pins: 1, 2

## DC_TAP_ANYA
designator J?, comment 2.xmm
2.xmm DC HEBA25 TÁPFESZÜLTSÉG ALJZAT ZÁRT, NYÁKBA 90°; Supplier: Lomex 43-07-67
footprint FP_DC_TAP_ANYA (DC HEBA25 TÁPFESZÜLTSÉG ALJZAT ZÁRT, NYÁKBA 90°)
pins: 1 9V (power), 2 GND (power), 3 GND (power)

## dht11
designator *
footprint DHT-11 (4×1 tüskesor)
pins: 1 VDD, 2 DATA, 3 NULL, 4 GND

## Digispark
designator *
footprint Digispark
pins: 1 PB0/MOSI, 2 PB1/MISO, 3 PB2/SCK/A1, 4 PB3/A3/USB-, 5 PB4/A2/USB+, 6 PB5/RST, 7 VRAW, 8 GND, 9 5V

## Diode
designator D?
Published: 8-Jun-2000; LatestRevisionDate: 17-Jul-2002; LatestRevisionNote: Re-released for DXP Platform.; DatasheetDocument: 6-Aug-1999; PackageReference: DO-35; Publisher: Altium Limited; Code_JEDEC: DO-204-AH; ComponentLink1Description: Manufacturer Link; ComponentLink1URL: http://www.vishay.com/; ComponentLink2Description: Datasheet; ComponentLink2URL: http://www.vishay.com/docs/85588/85588.pdf
footprint DO-35 (Diode, Axial; Body 3.9 x 1.7 mm (LxDia. max), Lead Dia. 0.55 mm (max))
footprint DO41 (Diode, Axial; Body 4.1 x 2.5 mm (LxDia. max), Lead Dia. 0.85 mm (max))
footprint DO214 (DO-214-AC/SMA; 2 C-Bend Leads; Body 5.3 x 2.6 mm, inc. leads (LxW))
footprint FP_SOD-128
footprint FP_SOD323-F (SOD323-F (SC-90))
footprint FP_SOD-123
pins: 1 A, 2 K

## ECS-110-S-5P
designator Y?
Crystal Oscillator; Published: 17-Jul-2002; DatasheetDocument: 18-Apr-2000; PackageReference: CSM-7; Publisher: Altium Limited; ComponentLink1Description: Manufacturer Link; ComponentLink1URL: http://www.ecsxtal.com/; ComponentLink2Description: Datasheet; ComponentLink2URL: http://www.ecsxtal.com/pdf3/CSM_7.pdf
footprint CSM-7 (Quartz Crystal, SM; 2 Leads; Body 11.4 x 4.8 x 5 mm (LxWxH))
simulation model XTAL (SUBCKT)
footprint Crystal
pins: 1 OSC1, 2 OSC2

## Encoder
designator *
footprint Encoder
pins: A, B, BTNA, BTNB, COM

## ESP12-E
designator U*, comment ESP-12-E
footprint ESP_12_E (ESP-12 Wi-Fi Module by AI-Thinker)
footprint ESP_12_E _widepad (ESP-12 Wi-Fi Module by AI-Thinker)
pins: 1 RST, 2 ADC, 3 EN, 4 GPIO16, 5 GPIO14, 6 GPIO12, 7 GPIO13, 8 VCC, 9 CS0, 10 MISO, 11 -, 12 -, 13 MOSI, 14 SCLK, 15 GND, 16 GPIO15, 17 GPIO2, 18 GPIO0, 19 GPIO4, 20 GPIO5, 21 RXD0, 22 TXD0

## ESP_MCV1
designator *
footprint ESP_MCv1
pins: 3V3, 5V, ADC, DCEN, GND, MISO, MOSI, RX, SCK, SCL/5, SDA/4, SS, TX

## ESP_MCV2
designator *
footprint ESP_MCv2
footprint ESP_MCv1
pins: 3V3, 3V32, 5V, 5V2, 10, 15, 16, 17, 18, 19, 20, ADC, DCEN, DCEN2, GND, GND2, MISO, MOSI, RX, SCK, SCL/5, SDA/4, SS, TX

## Forrszem
designator *
footprint FORRSZEM (Chip Capacitor; Body 2.0 x 1.2 mm (LxW typ))
footprint Solder Bridge
pins: 1 A, 2 B

## FXAS21002C
designator *
Farnell: 2474536
footprint QFN50P400X400X100-24M (QFN, 24-Leads, Body 4,00x4,00mm, Pitch 0,50mm, IPC Low Density)
pins: 1 GND1, 2 INT2, 3 INT1, 4 RST_B, 5 GND2, 6 RSVD_GND, 7 RSVD_GND, 8 I2C/SPI, 9 RSVD_GND, 10 RSVD_GND, 11 SCL/SCK, 12 SDA/MOSI, 13 SA0/MISO, 14 GND3, 15 VDD, 16 VREGD, 17 SPI_CS_B, 18 VDDIO, 19 GND4, 20 RSVD_GND, 21 RSVD_GND, 22 RSVD_GND, 23 RSVD_GND, 24 RSVD_GND

## GOMB
designator *
footprint GOMB_12x12jo
pins: A 0, A 1, B 2, B 3

## HALL_SS41
designator *
Lomex: 56-03-13
footprint HEADER3_1.27mm
pins: 1 VCC, 2 GND, 3 OUT

## Header4
designator *
footprint FP_CONN4_TUSKE_254MM (4×1 tüskesor)
pins: 1, 2, 3, 4

## Header5_1
designator *
footprint HEADER5x1
pins: 1, 2, 3, 4, 5

## Header6
designator *
footprint HEADER6
footprint HEADER6x1
footprint HEADER6b (Connector; IDC, Straight Press-in Pin, Thru-Hole; 10 Position; Vertical; Pitch 2.54 mm; Body 20.32 x 9.2 x 9.45 mm (LxWxH))
pins: 1, 2, 3, 4, 5, 6

## Header7
designator *
footprint FP_CONN7_TUSKE_254MM (7×1 tüskesor)
pins: 1, 2, 3, 4, 5, 6, 7

## Header8_1
designator *
footprint HEADER8x1
pins: 1, 2, 3, 4, 5, 6, 7, 8

## HEADER10
designator P?
Flat Cable Connector (IDC), Standard Male Header, Straight Press-in Pin, 10 Contacts, Performance Level 2; PCB_Layout: Complies with manufacturer's recommendation.; DrillSize: Corresponds to nominal value.; Published: 15-Nov-2004; PackageDocument: Feb-2000; PackageReference: 918510x329; Publisher: Altium Limited; ComponentLink1Description: Manufacturer Link; ComponentLink1URL: http://www.harting.com/; ComponentLink2Description: Packaging Specification; ComponentLink2URL: http://www.harkis.harting.com/_sek/pdf/TB_0918510x329_BL01_R31897.pdf
footprint 918510x329 (Connector; IDC, Straight Press-in Pin, Thru-Hole; 10 Position; Vertical; Pitch 2.54 mm; Body 20.32 x 9.2 x 9.45 mm (LxWxH))
pins: 1, 2, 3, 4, 5, 6, 7, 8, 9, 10

## Header12_1
designator *
footprint HEADER12x1
pins: 1, 2, 3, 4, 5, 6, 7, 8, 9, 10, 11, 12

## HEADER14
designator P?
Flat Cable Connector (IDC), 14; PCB_Layout: Complies with manufacturer's recommendation.; DrillSize: Corresponds to nominal value.; Published: 15-Nov-2004; PackageDocument: Feb-2000; PackageReference: 918510x329; Publisher: Altium Limited; ComponentLink1Description: Manufacturer Link; ComponentLink1URL: http://www.harting.com/; ComponentLink2Description: Packaging Specification; ComponentLink2URL: http://www.harkis.harting.com/_sek/pdf/TB_0918510x329_BL01_R31897.pdf
footprint HEADER14 (Connector; IDC, Straight Press-in Pin, Thru-Hole; 10 Position; Vertical; Pitch 2.54 mm; Body 20.32 x 9.2 x 9.45 mm (LxWxH))
pins: 1, 2, 3, 4, 5, 6, 7, 8, 9, 10, 11, 12, 13, 14

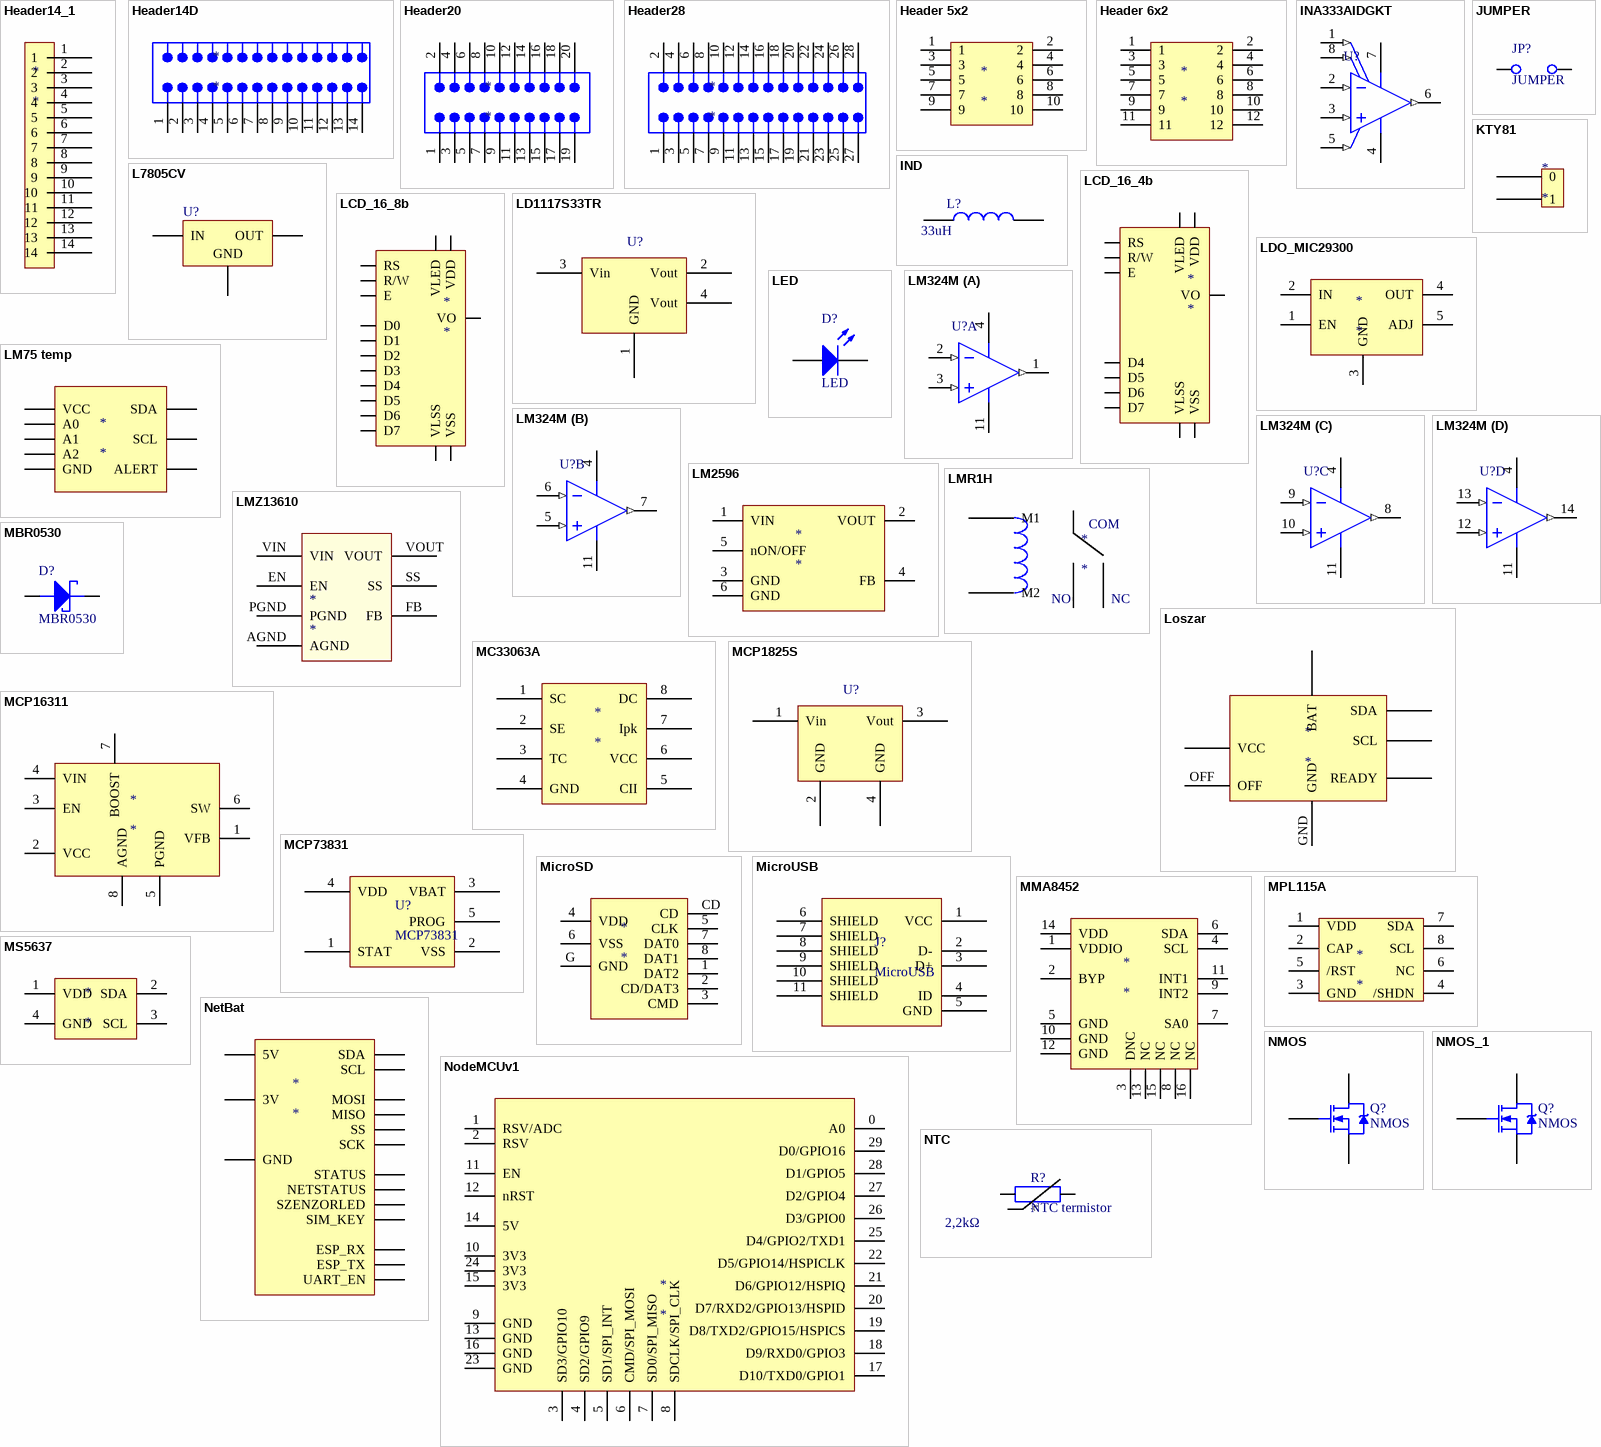
[diagram p4: symbols Header14_1 to NTC]

## Header14_1
designator *
footprint FP_CONN14_1TUSKE_254MM (1×14 ttüskesor)
pins: 1, 2, 3, 4, 5, 6, 7, 8, 9, 10, 11, 12, 13, 14

## Header14D
designator *
footprint FP_CONN14_2TUSKE_254MM (2×14 ttüskesor)
footprint FP_CONN14_3TUSKE_254MM (3×14 ttüskesor)
pins: 1, 2, 3, 4, 5, 6, 7, 8, 9, 10, 11, 12, 13, 14

## Header20
designator *
footprint FP_CONN20_2TUSKE_254MM (2×10 ttüskesor)
pins: 1, 2, 3, 4, 5, 6, 7, 8, 9, 10, 11, 12, 13, 14, 15, 16, 17, 18 16, 19, 20

## Header28
designator *
footprint FP_CONN28_2TUSKE_254MM (2×14 ttüskesor)
pins: 1, 2, 3, 4, 5, 6, 7, 8, 9, 10, 11, 12, 13, 14, 15, 16, 17, 18 16, 19, 20, 21, 22, 23, 24, 25, 26, 27, 28

## Header 5x2
designator *
footprint HEADER_5x2
pins: 1, 2, 3, 4, 5, 6, 7, 8, 9, 10

## Header 6x2
designator *
footprint HEADER_6x2
pins: 1, 2, 3, 4, 5, 6, 7, 8, 9, 10, 11, 12

## INA333AIDGKT
designator U?
Low Power, Precision Instrumentation Amplifier, -40 to 125 degC, 8-pin SOP (DGK8), Green (RoHS & no Sb/Br); Manufacturer: Texas Instruments; PartNumber: INA333AIDGKT; CMRR(Min)(dB): 100; Gain(V/V): 1 to 1000; Input Bias Current (+/-)(Max)(nA): 0.2; Input Offset (+/-)(Max)(uV): 25; Input Offset Drift (+/-)(Max)(uV/Degrees Celsius): 0.1; Noise at 1kHz(Typ)(nV/rt(Hz)): 50; Number of Channels: 1; Output Offset (+/-)(Max)(uV): 75/G; Output Offset Drift (+/-)(Max)(uV/Degrees Celsius): 0.5/G; Quiescent Current (+/-)(Typ)(mA): 0.05; SubFamily: Single Supply; Vs(Max)(V): 5.5; Vs(Min)(V): 1.8; DatasheetVersion: SBOS445B; PackageVersion: 4073329/E, 05/2006; PackageReference: DGK8; PackageDescription: 8-Pin Thin Small Outline, Body 3 x 3 mm, Pitch 0.65 mm; Supplier 1: Digi-Key; Supplier Part Number 1: 296-23565-2-ND; Supplier 2: Digi-Key; Supplier Part Number 2: 296-23565-1-ND; Supplier 3: Digi-Key; Supplier Part Number 3: 296-23565-6-ND; Supplier 4: Farnell; Supplier Part Number 4: 1645386; Supplier 5: Newark; Supplier Part Number 5: 86W6747; Supplier 6: Newark; Supplier Part Number 6: 03P4517; Supplier 7: Mouser; Supplier Part Number 7: 595-INA333AIDGKT; Eco-Plan: Green (RoHS & no Sb/Br); Mounting Technology: Surface Mount; Code_JEDEC: MO-187; ComponentLink1Description: Manufacturer URL; ComponentLink1URL: http://www.ti.com/; ComponentLink2Description: Datasheet; ComponentLink2URL: http://www.ti.com/general/docs/lit/getliterature.tsp?genericPartNumber=INA333&fileType=pdf; ComponentLink3Description: Package Specification; ComponentLink3URL: http://www.ti.com/litv/pdf/mpds028d
footprint TI-DGK8_N (SOP, 8-Leads, Body 3.1x3.1mm, Pitch 0.65mm, IPC Medium Density)
footprint TI-DGK8_L (SOP, 8-Leads, Body 3.1x3.1mm, Pitch 0.65mm, IPC High Density)
footprint TI-DGK8_M (SOP, 8-Leads, Body 3.1x3.1mm, Pitch 0.65mm, IPC Low Density)
pins: 1 RG (in), 2 VIN- (in), 3 VIN+ (in), 4 V- (power), 5 REF (in), 6 VOUT (out), 7 V+ (power), 8 RG (in)

## IND
designator L?, comment 33uH
Inductor; Value: 33uH
footprint FP_IND_MURATA3131 (Murata Chip Inductor LQH88P Series (3131 Size))
footprint FP_IND_13x9.4mm (Induktivitás)
footprint FP_IND_12,7x10x5MM (Induktivitás)
footprint DE1207_Ferrocore
footprint DLG_0504_Ferrocore
pins: 1, 2

## JUMPER
designator JP?
Jumper Wire; Supplier: Farnell 1668537×1/6
footprint FP_CONN2_TUSKE_2MM_1.5+3.2 (2×1-es tüskesor, 2mm-es raszter, 1.5mm műanyag + 3.2mm tüske SAMTEC-TMM-1XX-01-...)
footprint FP_CONN2_TUSKE_254MM (2×1 tüskesor)
pins: 1 C1, 2 C2

## KTY81
designator *
footprint KTY81
footprint Model Name (Footprint not found)
pins: 0, 1

## L7805CV
designator U?
Positive Voltage Regulator; Note: Tab is connected to pin 3 (GND).; Published: 24-Aug-2001; LatestRevisionDate: 17-Jul-2002; LatestRevisionNote: Re-released for DXP Platform.; DatasheetVersion: Dec-1998; PackageVersion: Jun-1998; PackageReference: TO220ABN; Publisher: Altium Limited; PackageDescription: TO, Thru-Hole, Vertical, Heatsink Mounted; 3 In-Line Leads; Pitch 2.54 mm; Pin sequence 1, 3, 2; ComponentLink1Description: Manufacturer Link; ComponentLink1URL: http://www.st.com/
footprint TO220ABN (TO, Thru-Hole, Vertical, Heatsink Mounted; 3 In-Line Leads; Pitch 2.54 mm; Pin sequence 1, 3, 2); pin to pad GND>3 IN>1 OUT>2
footprint SOT-223 (SOT-223/SC-73; 4 Leads; Body 6.7 x 7.3 mm, inc. leads (LxW max)); pin to pad GND>1 IN>3 OUT>2
pins: GND (power), IN (power), OUT (power)

## LCD_16_4b
designator *
footprint LCD_16
pins: 1 VSS, 2 VDD, 3 VO, 4 RS, 5 R/W, 6 E, 11 D4, 12 D5, 13 D6, 14 D7, 15 VLED, 16 VLSS

## LCD_16_8b
designator *
footprint LCD_16_2
pins: 1 VSS, 2 VDD, 3 VO, 4 RS, 5 R/W, 6 E, 7 D0, 8 D1, 9 D2, 10 D3, 11 D4, 12 D5, 13 D6, 14 D7, 15 VLED, 16 VLSS

## LD1117S33TR
designator U?, comment LDO Voltage Regulator  (value not drawn)
Fixed LDO Voltage Regulator, 4.75V to 15V, 1.1V Dropout, 3.3Vout, 800mAout, SOT-223-3
footprint SOT-223-2 (SOT-223/SC-73; 4 Leads; Body 6.7 x 7.3 mm, inc. leads (LxW max))
pins: 1 GND, 2 Vout, 3 Vin, 4 Vout

## LDO_MIC29300
designator *
footprint TO-263-5b (D2-PAK, 6-Pads, Body 8,9x9,9mm (max), IPC Low Density)
footprint TO-263-5 (D2-PAK/TO-263-AB; 3 Leads (1 Cropped); Body 15.6 (inc. leads) x 10.3 mm (LxW max))
pins: 1 EN, 2 IN, 3 GND, 4 OUT, 5 ADJ

## LED
designator D?
Typical RED GaAs LED
simulation model LED1 (Diode)
footprint FP_LED_TH_GREEN (5mm átmérőjű furatszerelt zöld LED); pin to pad 1>A 2>K
footprint FP_LED_TH_RED (5mm átmérőjű furatszerelt piros LED); pin to pad 1>A 2>K
footprint FP_0805_LED_RED (0805 méretű piros LED); pin to pad 1>A 2>K
footprint FP_0805_LED_GREEN (0805 méretű zöld LED); pin to pad 1>A 2>K
footprint FP_LED_3mm; pin to pad 1>A 2>K
pins: 1 A, 2 K

## LM75 temp
designator *
Farnell: 8455970; Lomex: 56-04-14
footprint SO8 (SOP, 8-Leads, Body 5.3x5.3mm, Pitch 1.27mm, IPC Low Density); pin to pad A0>7 A1>6 A2>5 ALERT>3 GND>4 SCL>2 SDA>1 VCC>8
pins: A0, A1, A2, ALERT, GND, SCL, SDA, VCC

## LM324M
designator U?
Low Power Quad Operational Amplifier, 14-pin Narrow SOIC; Code_JEDEC: MS-012AB; Code_IPC: SOIC127P600-14; ComponentLink1Description: LM324 Datasheet; ComponentLink1URL: http://www.national.com/ds/LM/LM324.pdf; ComponentLink2Description: LM324 Web Page; ComponentLink2URL: http://www.national.com/pf/LM/LM324.html; ComponentLink3Description: M14A Package Page; ComponentLink3URL: http://www.national.com/packaging/folders/m14a.html
simulation model LM324 (SUBCKT)
footprint FP_SOIC14 (SOIC-14 egyesek szerint narrow, RET szerint normál)
pins on every part: 4 V+ (power), 11 GND (power)
part A pins: 1 OUT1 (out), 2 IN1- (in), 3 IN1+ (in)
part B pins: 5 IN2+ (in), 6 IN2- (in), 7 OUT2 (out)
part C pins: 8 OUT3 (out), 9 IN3- (in), 10 IN3+ (in)
part D pins: 12 IN4+ (in), 13 IN4- (in), 14 OUT4 (out)

## LM2596
designator *
footprint TO-263-5 (D2-PAK/TO-263-AB; 3 Leads (1 Cropped); Body 15.6 (inc. leads) x 10.3 mm (LxW max))
pins: 1 VIN, 2 VOUT, 3 GND, 4 FB, 5 nON/OFF, 6 GND

## LMR1H
designator *
footprint LMR1H
pins: COM, M1, M2, NC, NO

## LMZ13610
designator *
footprint PFM11; pin to pad AGND>3+5+6 EN>4 FB>7 PGND>12 SS>8 VIN>1+2 VOUT>10+11
pins: AGND, EN, FB, PGND, SS, VIN, VOUT

## Loszar
designator *
footprint Loszar_fp
pins: BAT, GND, OFF, READY, SCL, SDA, VCC

## MBR0530
designator D?
MBR0530T1G -  Schottky Rectifier, 30 V, 500 mA, Single, SOD-123, 2 Pins, 430 mV; Reference: 1431036; Name: MBR0530T1G; Supplier: Farnell
footprint FP_SOD-123
footprint FP_SMA (SMA DO-214AC tok)
pins: 1 ANODE, 2 CATHODE

## MC33063A
designator *
pins: 1 SC, 2 SE, 3 TC, 4 GND, 5 CII, 6 VCC, 7 Ipk, 8 DC

## MCP1825S
designator U?, comment LDO Voltage Regulator  (value not drawn)
Fixed LDO Voltage Regulator, 2.1V to 6V, 210mV Dropout, 3Vout, 500mAout, SOT-223-3
footprint SOT-223-2 (SOT-223/SC-73; 4 Leads; Body 6.7 x 7.3 mm, inc. leads (LxW max))
footprint SOT-223 (SOT-223/SC-73; 4 Leads; Body 6.7 x 7.3 mm, inc. leads (LxW max))
pins: 1 Vin, 2 GND, 3 Vout, 4 GND

## MCP16311
designator *
footprint MSOP8_TSOP65P640X120-8M (TSOP, 8-Leads, Body 3,25x3,20mm, Pitch 0,65mm, IPC Low Density)
pins: 1 VFB, 2 VCC, 3 EN, 4 VIN, 5 PGND, 6 SW, 7 BOOST, 8 AGND

## MCP73831
designator U?
Li-ion battery charger
footprint MCP73831
pins: 1 STAT, 2 VSS, 3 VBAT, 4 VDD, 5 PROG

## MicroSD
designator *
footprint MICROSD ATTEND 112J-TDAR-R01
pins: 1 DAT2, 2 CD/DAT3, 3 CMD, 4 VDD, 5 CLK, 6 VSS, 7 DAT0, 8 DAT1, CD, G GND

## MicroUSB
designator J?
footprint MicroUSB (10118192-0001LF)
pins: 1 VCC, 2 D-, 3 D+, 4 ID, 5 GND, 6 SHIELD, 7 SHIELD, 8 SHIELD, 9 SHIELD, 10 SHIELD, 11 SHIELD

## MMA8452
designator *
Farnell: 1842360
footprint QFN50P300X300X100-16N (QFN, 16-Leads, Body 3,00x3,00mm, Pitch 0,50mm, IPC Medium Density)
pins: 1 VDDIO, 2 BYP, 3 DNC, 4 SCL, 5 GND, 6 SDA, 7 SA0, 8 NC, 9 INT2, 10 GND, 11 INT1, 12 GND, 13 NC, 14 VDD, 15 NC, 16 NC

## MPL115A
designator *
Farnell: 2102577
footprint QFN125P300X500X120-8N (QFN, 8-Leads, Body 3,00x5,00mm, Pitch 1,25mm, IPC Medium Density)
pins: 1 VDD, 2 CAP, 3 GND, 4 /SHDN, 5 /RST, 6 NC, 7 SDA, 8 SCL

## MS5637
designator *
Farnell: 2362663
footprint MS5637
pins: 1 VDD, 2 SDA, 3 SCL, 4 GND

## NetBat
designator *
footprint NetBat
footprint NetBat2
footprint NetBat3
pins: 3V, 5V, ESP_RX, ESP_TX, GND, MISO, MOSI, NETSTATUS, SCK, SCL, SDA, SIM_KEY, SS, STATUS, SZENZORLED, UART_EN

## NMOS
designator Q?
N-Channel Power MOSFET; Note: Pin 2 is electrically connected to pin 4.; Published: 8-Jun-2000; LatestRevisionDate: 17-Jul-2002; LatestRevisionNote: Re-released for DXP Platform.; DatasheetDocument: PD-9.814; PackageReference: TO-220AB; Publisher: Altium Limited; Code_JEDEC: TO-220-AB; ComponentLink1Description: Manufacturer Link; ComponentLink1URL: http://www.irf.com/
simulation model IRF1010 (Spice Subcircuit)
footprint SOT95P245X110-3N (SOT23, 3-Leads, Body 3.0x2.6mm (max), Pitch 0.95mm, IPC Medium Density); pin to pad D>3 G>1 S>2
pins: D, G, S

## NMOS_1
designator Q?, comment NMOS
NXP - BSP030,115 - MOSFET, N CH, 30V, 10A, SOT223; Supplier: Farnell 1758077
footprint FP_SOT223 (SOT223 package, 3 leads)
pins: 1 G, 2 D, 3 S

## NodeMCUv1
designator *
footprint NodeMCUv10
pins: 0 A0, 1 RSV/ADC, 2 RSV, 3 SD3/GPIO10, 4 SD2/GPIO9, 5 SD1/SPI_INT, 6 CMD/SPI_MOSI, 7 SD0/SPI_MISO, 8 SDCLK/SPI_CLK, 9 GND, 10 3V3, 11 EN, 12 nRST, 13 GND, 14 5V, 15 3V3, 16 GND, 17 D10/TXD0/GPIO1, 18 D9/RXD0/GPIO3, 19 D8/TXD2/GPIO15/HSPICS, 20 D7/RXD2/GPIO13/HSPID, 21 D6/GPIO12/HSPIQ, 22 D5/GPIO14/HSPICLK, 23 GND, 24 3V3, 25 D4/GPIO2/TXD1, 26 D3/GPIO0, 27 D2/GPIO4, 28 D1/GPIO5, 29 D0/GPIO16

## NTC
designator R?, comment NTC termistor  value 2,2kΩ
B constant: 3600K
footprint FP_0805_RES_SIMPLE (0805 ellenállás, amit én csináltam)
pins: 1, 2
text: -t°

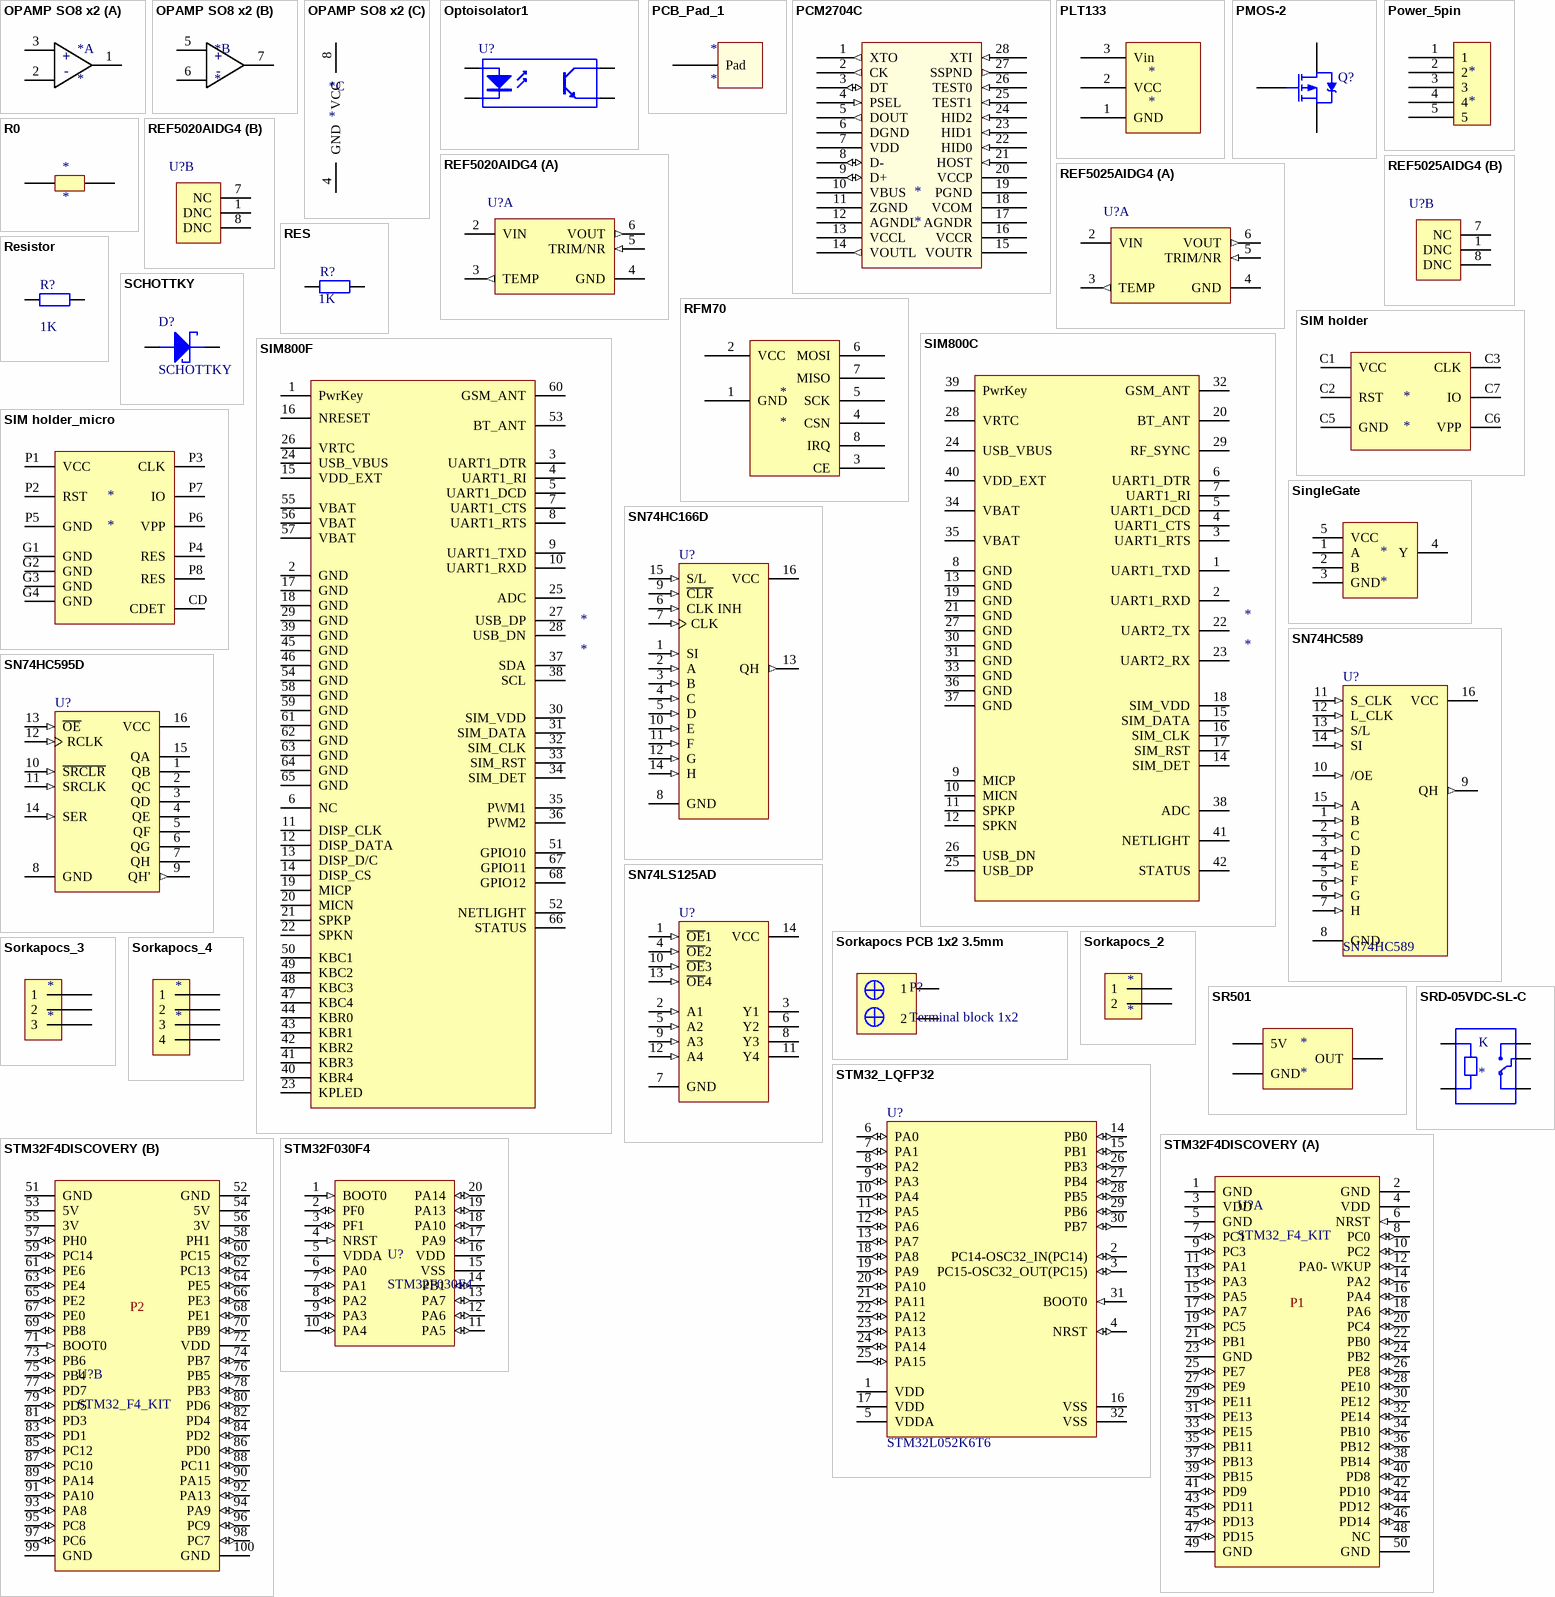
[diagram p5: symbols OPAMP SO8 x2 to STM32F030F4]

## OPAMP SO8 x2
designator *
Lomex: 89-07-46
footprint SO8 (SOP, 8-Leads, Body 5.3x5.3mm, Pitch 1.27mm, IPC Low Density)
part A pins: 1 O1, 2 N1, 3 P1
part B pins: 5 P2, 6 N2, 7 O2
part C pins: 4 GND, 8 VCC
part A text: +; -
part B text: +; -

## Optoisolator1
designator U?
4-Pin Phototransistor Optocoupler; Published: 24-Mar-1999; LatestRevisionDate: 04-Mar-2005; LatestRevisionNote: Sch pins 3 & 4 Swapped.; DatasheetVersion: Nov-2003; PackageReference: DIP-4; Publisher: Altium Limited
footprint DIP-4 (DIP; 4 Leads; Row Spacing 7.62 mm; Pitch 2.54 mm)
pins: 1 A "Anode", 2 K "Cathode", 3 E "Emitter", 4 C "Collector"

## PCB_Pad_1
designator *
footprint PCB_PAD_20x15
footprint PCB_PAD_10x10
footprint PCB_PAD_15x10
footprint PCB_PAD_10x5
footprint PCB_PAD_1p
pins: 1 Pad

## PCM2704C
designator *
footprint DB028 (SSOP, Plastic; 28 Leads; Body Width 5.3 mm; Pitch 0.65 mm)
pins: 1 XTO (out), 2 CK (out), 3 DT (io), 4 PSEL (in), 5 DOUT (out), 6 DGND (power), 7 VDD (power), 8 D- (io), 9 D+ (io), 10 VBUS (power), 11 ZGND (power), 12 AGNDL (power), 13 VCCL (power), 14 VOUTL (out), 15 VOUTR (power), 16 VCCR (power), 17 AGNDR (power), 18 VCOM (power), 19 PGND (power), 20 VCCP (power), 21 HOST (in), 22 HID0 (in), 23 HID1 (in), 24 HID2 (in), 25 TEST1 (in), 26 TEST0 (in), 27 SSPND (out), 28 XTI (in)

## PLT133
designator *
footprint PLT133 (Optical transmitter)
pins: 1 GND, 2 VCC, 3 Vin

## PMOS-2
designator Q?
P-Channel Power MOSFET; Note: Pin 4 not drawn and electrically connected to Pin 2.; Published: 8-Jun-2000; LatestRevisionDate: 17-Jul-2002; LatestRevisionNote: Re-released for DXP Platform.; DatasheetVersion: PD-9.390D; PackageVersion: Feb-1997; PackageReference: TO-220AB; Publisher: Altium Limited; PackageDescription: TO, Thru-Hole, Vertical, Heatsink Mounted; 3 In-Line Leads; Pitch 2.54 mm; ComponentLink1Description: Manufacturer Link; ComponentLink1URL: http://www.irf.com/
simulation model IRF9510 (Spice Subcircuit)
footprint SOT95P245X110-3N (SOT23, 3-Leads, Body 3.0x2.6mm (max), Pitch 0.95mm, IPC Medium Density); pin to pad D>3 G>1 S>2
pins: D, G, S

## Power_5pin
designator *
footprint POWER_5pin
footprint POWER_5pin_b
pins: 1, 2, 3, 4, 5

## R0
designator *
footprint R0_10mil (0805 0R)
footprint R0_20mil (0805 0R)
footprint FP_0805_RES (0805 ellenállás)
footprint FP_1206_RES (1206 ellenállás)
pins: 1, 2

## REF5020AIDG4
designator U?
Low Noise, Very Low Drift, Precision Voltage Reference, -40 to 125 degC, 8-pin SOIC (D), Green (RoHS & no Sb/Br); Manufacturer: Texas Instruments; PartNumber: REF5020AIDG4; Initial Accuracy @ 25/deg C(%): 0.05; Iout/Iz(Max)(mA): 10; Iq(Max)(uA): 1000; Rating: Catalog; SubFamily: Series Voltage Reference; Temp Coeff(Max)(ppm/ degree C): 3; VI(Max)(V): 18; VI(Min)(V): 2.7; VO(V): 2.048; DatasheetVersion: SBOS410E; PackageVersion: 4040047-3/M; PackageReference: D8; PackageDescription: 8-Pin Plastic Small Outline, Body 4.9 x 3.9 mm, Pitch 1.27 mm; Supplier 1: Digi-Key; Supplier Part Number 1: REF5020AIDG4-ND; Supplier 2: Farnell; Supplier Part Number 2: 1439621; Supplier 3: Newark; Supplier Part Number 3: 61M8506; Supplier 4: Newark; Supplier Part Number 4: 52M5974; Supplier 5: Mouser; Supplier Part Number 5: 595-REF5020AIDG4; Eco-Plan: Green (RoHS & no Sb/Br); Mounting Technology: Surface Mount; Code_JEDEC: MS-012; ComponentLink1Description: Manufacturer URL; ComponentLink1URL: http://www.ti.com/; ComponentLink2Description: Datasheet; ComponentLink2URL: http://www.ti.com/general/docs/lit/getliterature.tsp?genericPartNumber=REF5020&fileType=pdf; ComponentLink3Description: Package Specification; ComponentLink3URL: http://www.ti.com/litv/pdf/msoi002j
footprint TI-D8_N (SOIC, 8-Leads, Body 4.9x3.9mm, Pitch 1.27mm, IPC Medium Density)
part A pins: 2 VIN (power), 3 TEMP (out), 4 GND (power), 5 TRIM/NR (in), 6 VOUT (out)
part B pins: 1 DNC, 7 NC, 8 DNC